# EAGLE library part SBH11-NBPC-D04 (library con-sullins)
HEADER - Vertical, Shrouded
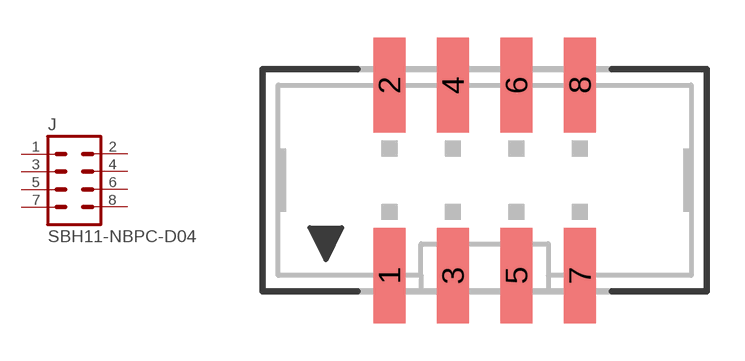
[diagram p19: symbol with the pads of SBH11-NBPC-D04; footprint SBH11-NBPC-D04]

Designator prefix J

## SBH11-NBPC-D04  [SBH11-NBPC-D04]
1  1  pas
2  2  pas
3  3  pas
4  4  pas
5  5  pas
6  6  pas
7  7  pas
8  8  pas

## Footprint SBH11-NBPC-D04 (pad centres in mm)
SMD HEADER - 0.1", Shrouded, Vertical
smd 1.27 x 3.81: 1 -3.81,-3.81; 2 -3.81,3.81; 3 -1.27,-3.81; 4 -1.27,3.81; 5 1.27,-3.81; 6 1.27,3.81; 7 3.81,-3.81; 8 3.81,3.81